# Altium footprint library PcbLib1.PcbLib: 7 footprints
Each footprint in its own frame and in the unit in brackets; x right, y up, seen from the top. Pads: shape width x height; smd on the part's side, far side on the other; paste and mask are expansions set on the pad; w line width, h text height; cw(c..) or ccw(c..) is an arc to the next point about the centre after c.
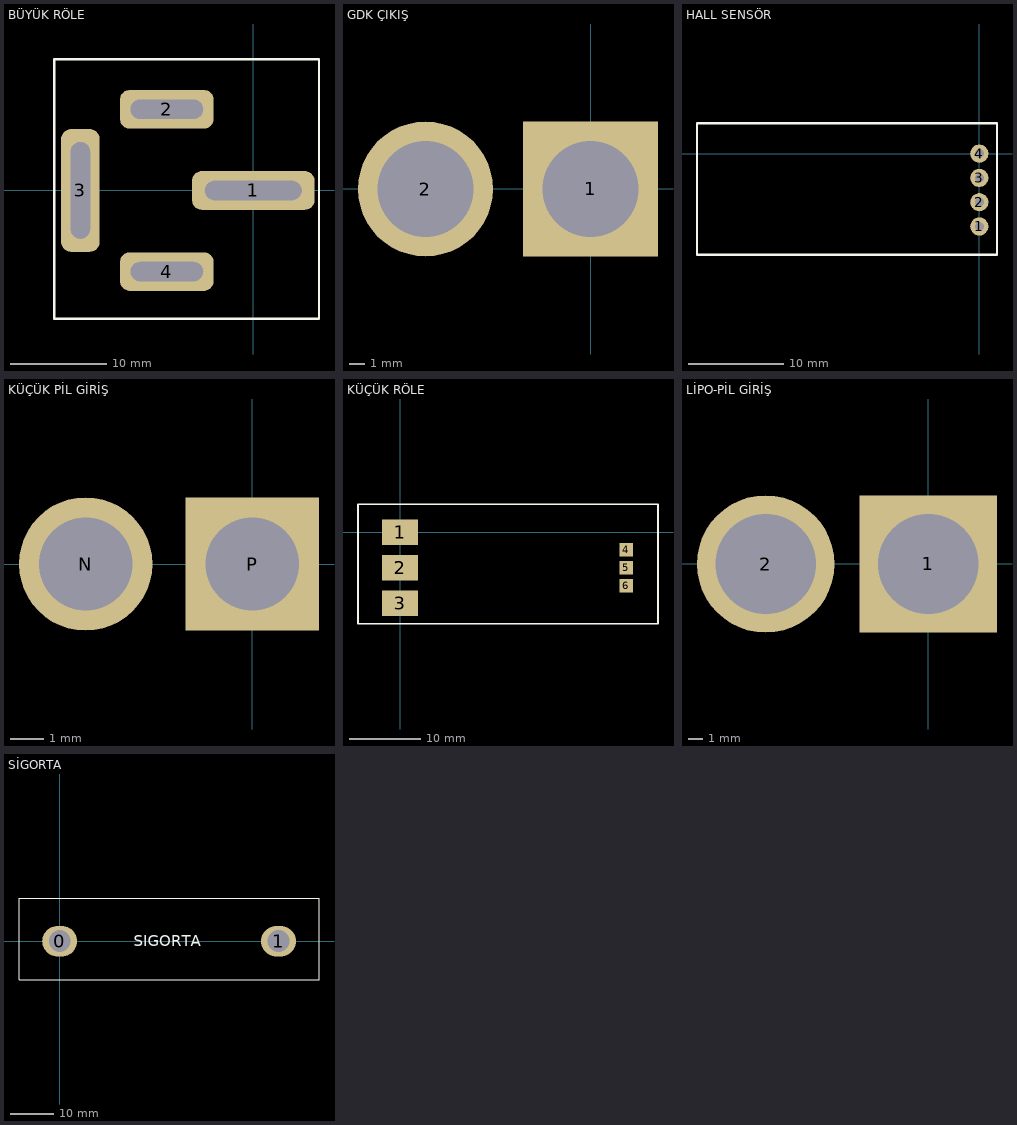
[diagram p0: the footprints below, top view; thin cyan lines are the x and y axes]

## BÜYÜK RÖLE [mm]
pads (4):
  rrect50% 12.7x4 hole 2 slot 10 at 0 deg paste-2539.97 mask+0.051: 1(0,0)
  rrect50% 9.7x4 hole 2 slot 7.5 at 0 deg paste-2539.97 mask+0.051: 2(-8.95,8.4) 4(-8.95,-8.4)
  rrect50% 4x12.7 hole 2 slot 10 at 90 deg paste-2539.97 mask+0.051: 3(-17.9,0)
Top Overlay:
  lines w0.254: -20.6,-13.3 6.8,-13.3 6.8,13.6 -20.6,13.6 -20.6,-13.3
3D body "12v 40A car relay.STEP": height 9.6, standoff -43, extent -21.085,-13.803 10.415,14.197

## GDK ÇIKIŞ [mm]
pads (2):
  rect 9x9 hole 6.4: 1(0,0)
  round 9 hole 6.4: 2(-11,0)
3D body "XT90PB-F.step": height 20.1, standoff -2.7, extent -16.2,-5.4 5.2,5.3

## HALL SENSÖR [mil]
pads (4):
  round 75 hole 37.5 mask+1.97: 1(0,-300) 2(0,-200) 3(0,-100) 4(0,0)
Top Overlay:
  lines w9.84: -1163.39,125.98 72.83,125.98
  lines w10: -1163.39,125.98 -1163.39,-417.32 72.83,-417.32 72.83,125.98
3D body "Hall-Sensor (2).stp": height 271.65, standoff -23.62, extent -1586.77,-426.06 281.36,132.99

## KÜÇÜK PİL GİRİŞ [mm]
pads (2):
  round 4 hole 2.8: N(-5,0)
  rect 4x4 hole 2.8: P(0,0)
3D body "User Library-XT30.STEP": height 12.6, standoff -2.9, extent -7.7,-2.6 2.7,2.7

## KÜÇÜK RÖLE [mm]
pads (6):
  rect 5x3.6 smd paste-2539.97 mask+0.102: 1(0,0) 2(0,-5) 3(0,-10)
  rect 1.9x1.9 smd mask+0.05: 4(31.75,-2.46) 5(31.75,-5) 6(31.75,-7.54)
Top Overlay:
  lines w0.254: -5.9,-12.85 36.2,-12.85 36.2,3.9 -5.9,3.9 -5.9,-12.85
3D body "Arduino relay (1).STEP": height 18, standoff -0.35, extent -6.36,-13.23 36.64,4.27

## LİPO-PİL GİRİŞ [mm]
pads (2):
  rect 9.3x9.3 hole 6.8: 1(0,0)
  round 9.3 hole 6.8: 2(-11,0)
3D body "XT90PB-M.step": height 20.8, standoff -2.7, extent -16.2,-5.4 5.2,5.3

## SİGORTA [mm]
pads (2):
  oval 8x7 hole 5: 0(0,0) 1(50,0)
Top Overlay:
  lines w0.254: -9.3,-8.8 -9.3,9.8 59.25,9.8 59.25,-8.8 -9.3,-8.8
  text "SIGORTA" at 16.9,-1.1 h2.5
3D body "LittleFuse MEGA PART.STEP": height 11.6, standoff 1.4, extent -9.5,-9 59.5,10
3D body: height 12, standoff 11, extent 17.5,-9 32.5,10